# Altium schematic symbol library 3266W-1-103LF.SchLib: 1 symbol
Pins are listed as number, name and electrical type; pins without a type are passive.

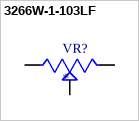
[diagram p0: symbol 3266W-1-103LF]

## 3266W-1-103LF
designator VR?
10 kOhms 0.25W, 1/4W PC Pins Through Hole Trimmer Potentiometer Cermet 12 Turn Top Adjustment; MP: 3266W-1-103LF; MF: Bourns; Package: 3266 Bourns; Availability: Good; SnapEDA_Link: https://www.snapeda.com/parts/3266W-1-103LF/Bourns%20-%20J.W.%20Miller/view-part/49286/?ref=snap; Price: None; Check_prices: https://www.snapeda.com/parts/3266W-1-103LF/Bourns%20-%20J.W.%20Miller/view-part/49286/?ref=eda; Value: *; Purchase-URL: https://pricing.snapeda.com/search/part/3266W-1-103LF/?ref=eda
footprint TRIM_3266W-1-103LF
pins: 1 CCW, 2 WIPER, 3 CW